# Altium footprint library Misc.PcbLib: 150 footprints (part 6 of 10)
Each footprint in its own frame and in the unit in brackets; x right, y up, seen from the top. Pads: shape width x height; smd on the part's side, far side on the other; paste and mask are expansions set on the pad; w line width, h text height; cw(c..) or ccw(c..) is an arc to the next point about the centre after c.
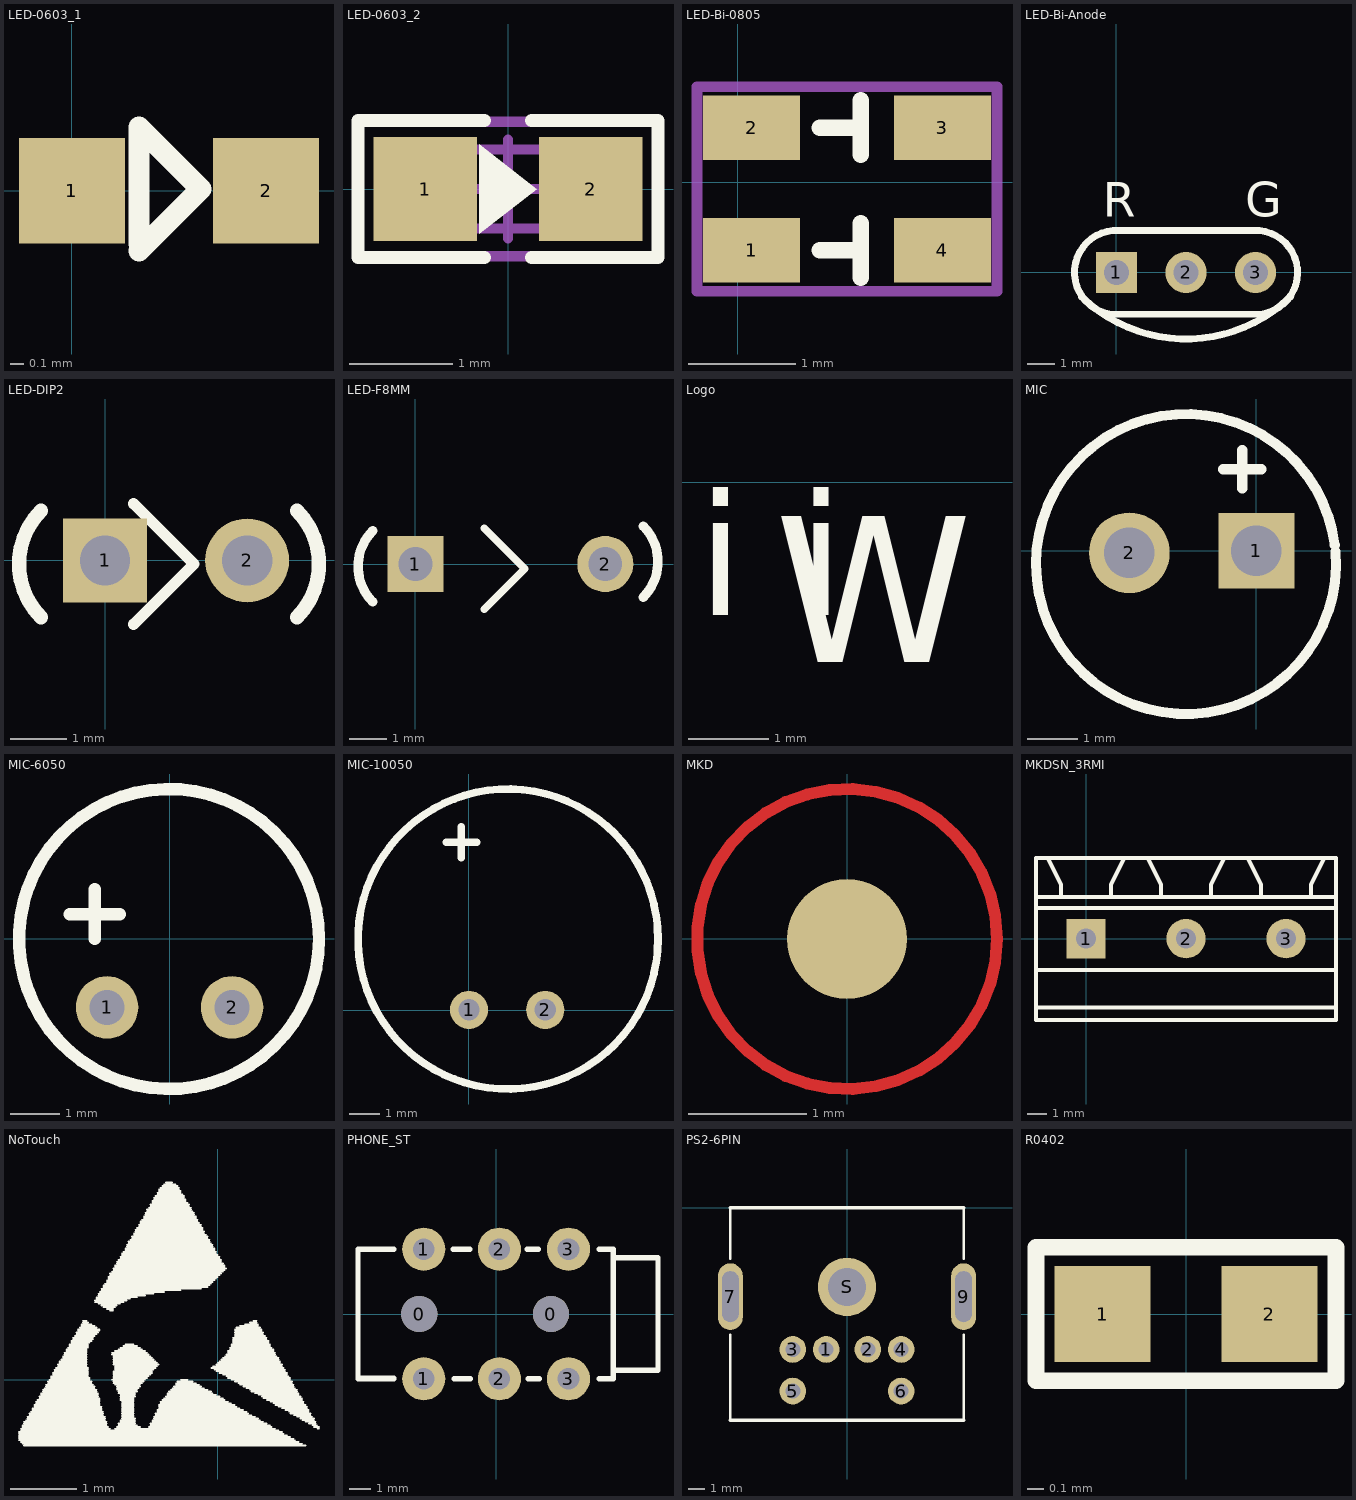
[diagram p5: the footprints below, top view; thin cyan lines are the x and y axes]

## LED-0603_1 [mil]
height 200
pads (2):
  rect 30x30 smd: 1(0,0) 2(55,0)
Top Overlay:
  lines w6: 19,-17 36.5,0.5 19,18 19,-15 20,-16
3D body: height 23.62, standoff 0, extent -4.14,-15 59.64,16.5

## LED-0603_2 [mm] "SMT LED"
height 0.85
pads (2):
  rect 1x1 smd: 1(-0.8,0) 2(0.8,0)
Top Overlay:
  region: -0.279,0.432 0.279,0 -0.279,-0.432
  lines w0.127: -0.229,-0.66 -1.448,-0.66 -1.448,0.66 -0.229,0.66 ; 0.229,-0.66 1.448,-0.66 1.448,0.66 0.229,0.66
Mechanical 13:
  lines w0.1: -1.016,-0.381 -1.016,0.381 1.016,0.381 1.016,-0.381 -1.016,-0.381
Mechanical 15:
  lines w0.1: -0.475,0 0.475,0 ; 0,-0.475 0,0.475 ; -1.448,-0.65 -1.448,0.65 1.448,0.65 1.448,-0.65 -1.448,-0.65
3D body: height 0.6, standoff 0, extent -0.81,-0.4 0.81,0.4

## LED-Bi-0805 [mm]
pads (4):
  rect 0.9x0.6 smd: 1(0.127,-0.635) 2(0.127,0.508) 3(1.905,0.508) 4(1.905,-0.635)
Top Overlay:
  lines w0.152: 0.762,-0.635 1.143,-0.635 ; 0.762,0.508 1.143,0.508 ; 1.143,-0.889 1.143,-0.381 ; 1.143,0.254 1.143,0.762
Mechanical 15:
  lines w0.1: -0.381,-1.016 -0.381,0.889 2.413,0.889 2.413,-1.016 -0.381,-1.016
3D body: height 1.1, standoff 0, extent 0.316,-1.016 1.716,0.903

## LED-Bi-Anode [mm]
pads (3):
  rect 1.5x1.5 hole 0.9: 1(0,0)
  round 1.5 hole 0.9: 2(2.54,0) 3(5.08,0)
Top Overlay:
  lines w0.254: -1.27,-0.889 ccw(c2.54,3.048) 6.35,-0.889 ; -0.153,-1.527 cw(c0,0) -0.127,1.529 5.23,1.529 5.233,1.527 cw(c5.08,0) 5.355,-1.51 5.337,-1.527 -0.153,-1.527
  text "R" at -0.508,2.032 h1.27
  text "G" at 4.699,2.032 h1.27

## LED-DIP2 [mm]
pads (2):
  rect 1.5x1.5 hole 0.9: 1(0,0)
  round 1.5 hole 0.9: 2(2.54,0)
Top Overlay:
  lines w0.203: 0.508,-1.143 1.587,-0.064 0.508,1.016
  lines w0.254: -1.143,-1.016 cw(c-0.191,-0.064) -1.143,0.889 ; 3.429,-1.016 ccw(c2.476,-0.064) 3.429,0.889

## LED-F8MM [mm]
pads (2):
  rect 1.5x1.5 hole 0.9: 1(0,0)
  round 1.5 hole 0.9: 2(5.08,0)
Top Overlay:
  lines w0.203: 1.841,-1.206 2.921,-0.127 1.841,0.953
  lines w0.254: -1.143,-1.016 cw(c-0.191,-0.064) -1.143,0.889 ; 6.096,-0.889 ccw(c5.143,0.064) 6.096,1.016

## Logo [mil]
Top Overlay:
  text "W" at 1183,-88 h80
  text "i i" at 1145,-65 h60

## MIC [mm]
pads (2):
  rect 1.5x1.5 hole 1: 1(0,0)
  round 1.6 hole 1: 2(-2.519,-0.042)
Top Overlay:
  lines w0.2: -0.662,1.614 0.1,1.614 ; -0.281,1.233 -0.281,1.995 ; 1.552,0.115 ccw(c-1.395,-0.264) 1.566,-0.019

## MIC-6050 [mil] "Mic 6050"
height 196.85
pads (2):
  round 50 hole 28: 1(-50,-55) 2(50,-55)
Top Overlay:
  circle w10: c-0.42,-0.29 r120.02
  lines w10: -80,19.71 -40,19.71 ; -60,-0.29 -60,39.71

## MIC-10050 [mil]
pads (2):
  round 50 hole 28: 1(0.42,0.29) 2(100.42,0.29)
Top Overlay:
  circle w10: c51.58,93.29 r196.85
  lines w10: -29.58,220.29 10.42,220.29 ; -9.58,200.29 -9.58,240.29

## MKD [mil]
pads (2):
  round 40 smd: ""(0,-0.06)
  round 80 on Top Solder: ""(0,-0.06)
Top Layer:
  circle w3.94: c0,-0.06 r50

## MKDSN_3RMI [mm]
pads (3):
  rect 2x2 hole 1: 1(0,0)
  round 2 hole 1: 2(5.08,0) 3(10.16,0)
Top Overlay:
  lines w0.203: -2.54,-3.514 12.7,-3.514 ; -2.54,-1.609 12.7,-1.609 ; -2.54,1.566 12.7,1.566 ; -2.54,2.117 12.7,2.117 ; -1.905,4.022 -1.27,2.752 -1.27,2.117 ; 1.27,2.117 1.27,2.752 1.905,4.022 ; 3.175,4.022 3.81,2.752 3.81,2.117 ; 6.35,2.117 6.35,2.752 6.985,4.022 ; 8.255,4.022 8.89,2.752 8.89,2.117 ; 11.43,2.117 11.43,2.752 12.065,4.022 ; -2.54,-4.149 -2.54,4.106 12.7,4.106 12.7,-4.149 -2.54,-4.149

## NoTouch [mil]
Top Overlay:
  drawing of 297 lines, arcs and shapes, not listed

## PHONE_ST [mm]
pads (8):
  round 1.676 hole 1.676: 0(-3.556,0) 0(2.54,0)
  round 2 hole 1: 1(-3.35,-3) 1(-3.35,3) 2(0.15,-3) 2(0.15,3) 3(3.35,-3) 3(3.35,3)
Top Overlay:
  lines w0.254: -6.393,-2.969 -4.742,-2.969 ; -4.742,-3.007 -6.393,-3.007 -6.393,3 -4.742,3 ; -1.986,3 -1.224,3 ; -1.948,-3.007 -1.186,-3.007 ; 1.443,3 1.951,3 ; 1.481,-3.007 1.989,-3.007 ; 4.783,-3.007 5.33,-3.007 ; 4.783,3 5.418,3 5.418,-3.007 ; 5.418,-2.6 7.493,-2.6 7.493,2.6 5.418,2.6

## PS2-6PIN [mm]
pads (9):
  round 1.6 hole 0.9: 1(-1.25,-8.5) 2(1.25,-8.5) 3(-3.25,-8.5) 4(3.25,-8.5) 5(-3.25,-11) 6(3.25,-11)
  oval 1.5x4 hole 1 slot 3.048 at 90 deg: 7(-7,-5.334) 9(7,-5.334)
  round 3.5 hole 2.3: S(0,-4.75)
Top Overlay:
  lines w0.152: -7,-12.75 -7,-7.62 ; -7,-3.048 -7,0 ; 7,-12.75 7,-7.62 ; 7,-3.048 7,0
  lines w0.2: -7,-12.75 7,-12.75 ; -7,0 7,0

## R0402 [mm]
pads (2):
  rect 0.575x0.575 smd: 1(-0.5,0) 2(0.5,0)
Top Overlay:
  lines w0.1: -0.9,-0.4 -0.9,0.4 0.9,0.4 0.9,-0.4 -0.9,-0.4
3D body: height 0.51, standoff 0, extent -0.508,-0.254 0.508,0.254